# EAGLE library part P2_3_2.54S (library pins)
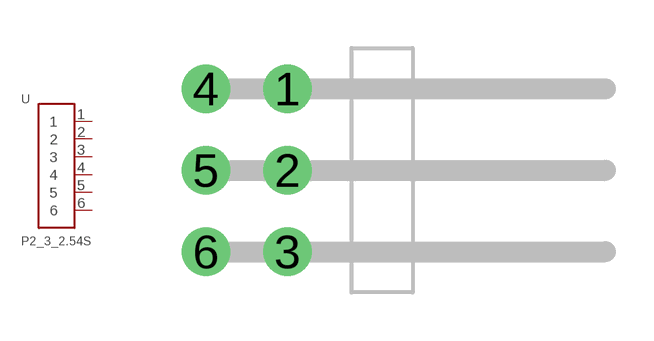
[diagram p3: symbol with the pads of P2_3_2.54S; footprint P2_3_2.54S]

Designator prefix -

## P2_3_2.54S  [P2_3_2.54S]
1  1
2  2
3  3
4  4
5  5
6  6

## Footprint P2_3_2.54S (pad centres in mm)
drill 1: 1 0,2.54; 2 0,0; 3 0,-2.54; 4 -2.54,2.54; 5 -2.54,0; 6 -2.54,-2.54